# Altium schematic symbol library ESTEEMPCBLIB.SchLib: 593 symbols (part 1 of 5)
Pins are listed as number, name and electrical type; pins without a type are passive.

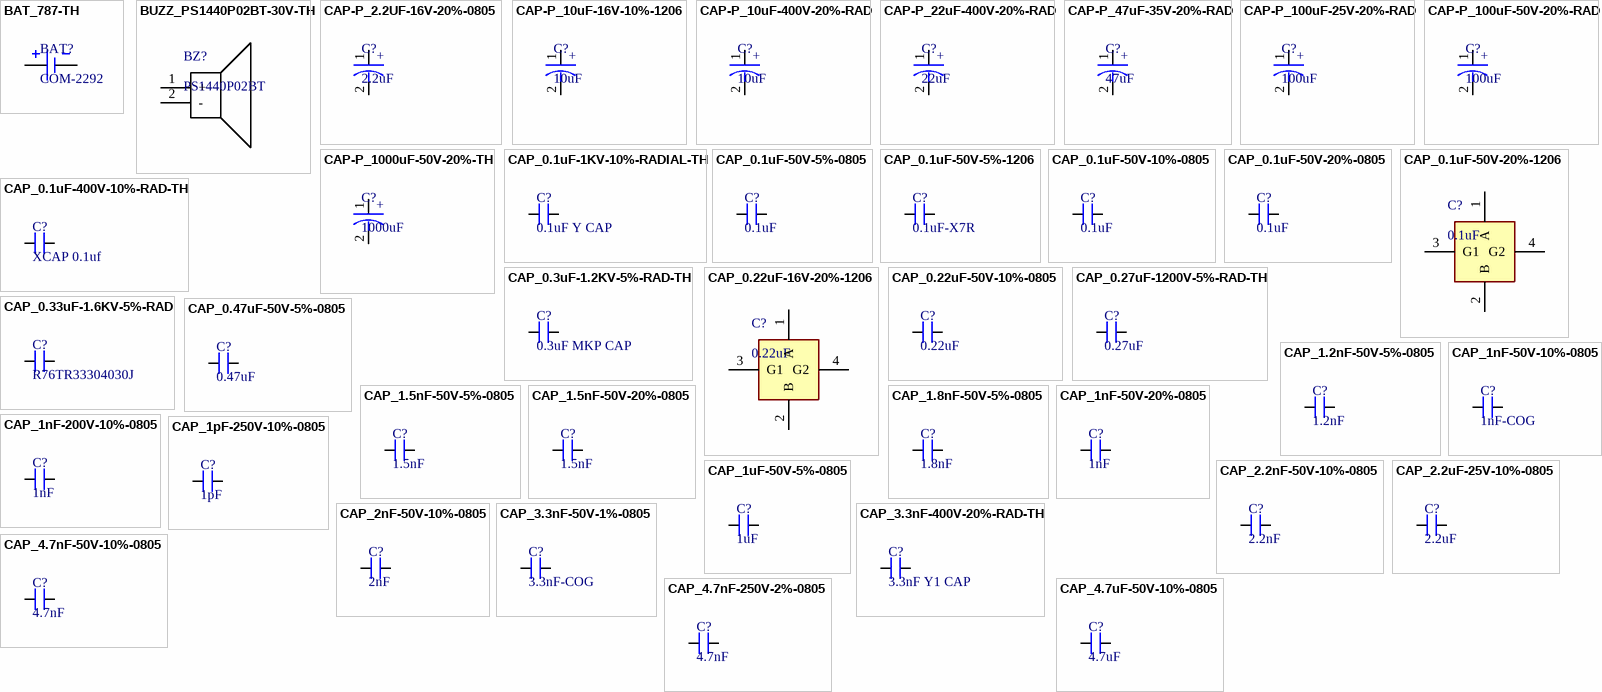
[diagram p0: symbols BAT_787-TH to CAP_4.7uF-50V-10%-0805]

## BAT_787-TH
designator BAT?, comment COM-2292
Basic 20mm coin cell holder. Posts can be inserted into 0.1" perf board! Holds the common CR2032 type batteries.; Manufacturer: NA; Manufacturer Part Number: NA; Case/Package: TH; Supplier-1: Rhydo Labs; Supplier Part Number-1: COM-2292; Alternate Part Number-1: NA
footprint BAT_761_TH (Battery holder)
pins: 1 POS, 2 NEG

## BUZZ_PS1440P02BT-30V-TH
designator BZ?, comment PS1440P02BT
Buzzers Transducer, Externally Driven Piezo 3V  4kHz 75dB @ 3V, 10cm Through Hole PC Pins; Manufacturer: TDK Corporation; Alternate Part Number-1: NA; Manufacturer Part Number: PS1440P02BT; Case/Package: TH; Supplier-1: SP ROAD; Supplier Part Number-1: NA
footprint BUZZ_PS1440P02BT_TH (AUDIO PIEZO TRANSDUCER 30V TH)
pins: 1 +, 2 -

## CAP-P_2.2UF-16V-20%-0805
designator C?, comment 2.2uF
2.2µF Molded Tantalum Capacitors 16V 0805 (2012 Metric) 6.5Ohm; Manufacturer: AVX Corporation; Manufacturer Part Number: TAJR225M016RNJ; Alternate Part Number-1: NA; Case/Package: 0805; Supplier-1: ARROW; Supplier Part Number-1: CL21B225KAFNNNE
footprint CAP-t_0805 (Tantalum Capacitor)
pins: 1, 2
text: +

## CAP-P_10uF-16V-10%-1206
designator C?, comment 10uF
10µF Molded Tantalum Capacitors 16V 1206 (3216 Metric) 3Ohm /; Manufacturer: AVX Corporation; Manufacturer Part Number: TAJA106K016SNJ; Alternate Part Number-1: CA45-A016K106T; Case/Package: 1206; Supplier-1: SIRICOM; Supplier Part Number-1: TAJA106K016SNJ
footprint CAP-T_1206 (Tantalum Capacitor)
pins: 1, 2
text: +

## CAP-P_10uF-400V-20%-RAD
designator C?, comment 10uF
10µF 400V Aluminum Electrolytic Capacitors Radial, Can - SMD 10000 Hrs @ 105°C /; Manufacturer: Nichicon; Manufacturer Part Number: ULV2G100MNL1GS; Alternate Part Number-1: NA; Case/Package: Radial-SMD; Supplier-1: SP ROAD; Supplier Part Number-1: ULV2G100MNL1GS
footprint ACAP_P339_D393_H531_RAD (Aluminium Capacitor)
pins: 1, 2
text: +

## CAP-P_22uF-400V-20%-RAD
designator C?, comment 22uF
22µF 400V Aluminum Electrolytic Capacitors Radial, Can - SMD 5000 Hrs @ 105°C /; Manufacturer: Panasonic Electronic Components; Manufacturer Part Number: EEV-EB2G220M; Alternate Part Number-1: NA; Case/Package: Radial-SMD; Supplier-1: Mouser; Supplier Part Number-1: 667-EEV-EB2G220M
footprint ACAP_P534_D630_H649_RAD (Aluminium Capacitor)
pins: 1, 2
text: +

## CAP-P_47uF-35V-20%-RAD
designator C?, comment 47uF
47µF 35V Aluminum Electrolytic Capacitors Radial, Can - SMD 1000 Hrs @ 85°C /; Manufacturer: Panasonic Electronic Components; Manufacturer Part Number: EEE-1VA470WP; Alternate Part Number-1: NA; Case/Package: Radial-SMD; Supplier-1: SIRICOM; Supplier Part Number-1: RV5-35V470MF55U-R
footprint ACAP_P180_D259_H212_RAD (Aluminium Capacitor)
pins: 1, 2
text: +

## CAP-P_100uF-25V-20%-RAD
designator C?, comment 100uF
100µF 25V Aluminum Electrolytic Capacitors Radial, Can - SMD 1000 Hrs @ 105°C /; Manufacturer: Nichicon; Manufacturer Part Number: UWT1E101MCL1GS; Alternate Part Number-1: NA; Case/Package: Radial-SMD; Supplier-1: SP ROAD; Supplier Part Number-1: UWT1E101MCL1GS
footprint ACAP_P236_D305_H303_RAD (Aluminium Capacitor)
pins: 1, 2
text: +

## CAP-P_100uF-50V-20%-RAD
designator C?, comment 100uF
100µF 50V Aluminum Polymer Capacitor Radial, Can - SMD 28mOhm 4000 Hrs @ 125°C /; Manufacturer: Nichicon; Manufacturer Part Number: GYA1H101MCQ1GS; Alternate Part Number-1: VEU101M1HTR-1010; Case/Package: Radial-SMD; Supplier-1: SP ROAD; Supplier Part Number-1: GYA1H101MCQ1GS
footprint ACAP_P305_D393_H393_RAD (Aluminium Capacitor)
pins: 1, 2
text: +

## CAP-P_1000uF-50V-20%-TH
designator C?, comment 1000uF
1000µF 50V Aluminum Electrolytic Capacitors Radial, Can 2000 Hrs @ 85°C /; Manufacturer: Nichicon; Manufacturer Part Number: UVR1H102MHD1TO; Alternate Part Number-1: NRSS102M50V 12.5X25TBF; Case/Package: Radial-TH; Supplier-1: SP ROAD; Supplier Part Number-1: UVR1H102MHD1TO
footprint ECAP_P196_D511_H984_TH (Electrolytic Capacitor)
pins: 1, 2
text: +

## CAP_0.1uF-1KV-10%-RADIAL-TH
designator C?, comment 0.1uF Y CAP
0.1µF Film Capacitor 500V 1000V (1kV) Paper, Metallized Radial /; Manufacturer: KEMET; Manufacturer Part Number: PME261JC6100KR30; Alternate Part Number-1: NA; Case/Package: TH; Supplier-1: SP ROAD; Supplier Part Number-1: PME261JC6100KR30
footprint CAP_P799_78X118_H590_RAD_TH (Y-CAP Film Capacitor)
pins: 1, 2

## CAP_0.1uF-50V-5%-0805
designator C?, comment 0.1uF
0.1µF ±5% 50V Ceramic Capacitor X7R 0805 (2012 Metric) /; Manufacturer: AVX Corporation; Manufacturer Part Number: 08055C104JAT4A; Alternate Part Number-1: 0805B104M500; Case/Package: 0805; Supplier-1: SIRICOM; Supplier Part Number-1: 0805B104J500CT
footprint CAP_0805 (Ceramic Capacitor)
pins: 1, 2

## CAP_0.1uF-50V-5%-1206
designator C?, comment 0.1uF-X7R
0.1µF ±5% 50V Ceramic Capacitor X7R 1206 (3216 Metric) /; Manufacturer: KEMET; Manufacturer Part Number: C1206C104J5RACTU; Alternate Part Number-1: NA; Case/Package: 1206; Supplier-1: SIRICOM; Supplier Part Number-1: 1206B104J500CT
footprint CAP_1206
pins: 1, 2

## CAP_0.1uF-50V-10%-0805
designator C?, comment 0.1uF
0.1µF ±10% 50V Ceramic Capacitor X7R 0805 (2012 Metric) /; Manufacturer: Samsung; Manufacturer Part Number: CL21B104KBCNNNC; Alternate Part Number-1: NA; Case/Package: 0805; Supplier-1: SIRICOM; Supplier Part Number-1: 0805B104K500CT
footprint CAP_0805 (Ceramic Capacitor)
pins: 1, 2

## CAP_0.1uF-50V-20%-0805
designator C?, comment 0.1uF
0.1µF ±20% 50V Ceramic Capacitor X7R 0805 (2012 Metric) /; Manufacturer: Samsung Electro-Mechanics; Manufacturer Part Number: CL21B104MBCNNNC; Alternate Part Number-1: NA; Case/Package: 0805; Supplier-1: SIRICOM; Supplier Part Number-1: 0805B104K500CT
footprint CAP_0805 (Ceramic Capacitor)
pins: 1, 2

## CAP_0.1uF-50V-20%-1206
designator C?, comment 0.1uF
0.1µF ±20% 50V Ceramic Capacitor X7R 1206 (3216 Metric) /; Manufacturer: Kyocera AVX; Manufacturer Part Number: 500X18W104MV4E; Alternate Part Number-1: NA; Case/Package: 1206; Supplier-1: Mouser; Supplier Part Number-1: 605-500X18W104MV4E
footprint CAP_1206_JOHNSON
pins: 1 A, 2 B, 3 G1, 4 G2

## CAP_0.1uF-400V-10%-RAD-TH
designator C?, comment XCAP 0.1uf
0.1µF Film Capacitor 200V 400V Polyester, Polyethylene Terephthalate (PET), Metallized Radial /; Manufacturer: KEMET; Manufacturer Part Number: R60MI31004030K; Alternate Part Number-1: NA; Case/Package: TH; Supplier-1: SP ROAD; Supplier Part Number-1: R60MI31004030K
footprint CAP_P590_295X708_H437_RAD_TH (Radial X-CAP)
pins: 1, 2

## CAP_0.3uF-1.2KV-5%-RAD-TH
designator C?, comment 0.3uF MKP CAP
0.3µF ±5% 1200V (1.2kV) MKP Capacitor TH; Manufacturer Part Number: NA; Case/Package: TH; Manufacturer: NA; Supplier-1: SP ROAD; Supplier Part Number-1: NA; Alternate Part Number-1: NA
footprint CAP_P964_864X1122_H649_RAD_TH (MKP Capacitor)
pins: 1, 2

## CAP_0.22uF-16V-20%-1206
designator C?, comment 0.22uF
0.22µF ±20% 16V Ceramic Capacitor X7R 1206 (3216 Metric) /; Manufacturer: Johanson; Manufacturer Part Number: 160X18W224MV4E; Alternate Part Number-1: NA; Case/Package: 1206; Supplier-1: SIRICOM; Supplier Part Number-1: C3216X7R1C224KT009N
footprint CAP_1206_JOHNSON (1206 Johnson Cap)
pins: 1 A, 2 B, 3 G1, 4 G2

## CAP_0.22uF-50V-10%-0805
designator C?, comment 0.22uF
0.22µF ±10% 50V Ceramic Capacitor X7R 0805 (2012 Metric) /; Manufacturer: Murata; Manufacturer Part Number: GRM21BR71H224KA01L; Alternate Part Number-1: 0805F224M500NT; Case/Package: 0805; Supplier-1: SIRICOM; Supplier Part Number-1: 0805B224K500CT
footprint CAP_0805 (Ceramic Capacitor)
pins: 1, 2

## CAP_0.27uF-1200V-5%-RAD-TH
designator C?, comment 0.27uF
0.27µF ±5% 1200V (1.2kV) MKP Capacitor TH; Manufacturer Part Number: BM-0.27uFJ400V-275V-MKP-X2; Manufacturer: Yageo; Alternate Part Number-1: NA; Case/Package: TH; Supplier-1: SP ROAD; Supplier Part Number-1: BM-0.27uFJ400V-275V-MKP-X2
footprint CAP_P964_531X1141_H905_RAD_TH (MKP/MKPH CAPACITORS)
pins: 1, 2

## CAP_0.33uF-1.6KV-5%-RAD
designator C?, comment R76TR33304030J
0.33µF Film Capacitor 650V 1600V (1.6kV) Polypropylene (PP), Metallized Radial /; Manufacturer: KEMLET; Alternate Part Number-1: NA; Manufacturer Part Number: R76TR33304030J; Case/Package: TH; Supplier-1: Mouser; Supplier Part Number-1: 80-R76TR33304030J
footprint CAP_P1082_1260X708_H945_RAD (KEMET Film Capacitor)
pins: 1, 2

## CAP_0.47uF-50V-5%-0805
designator C?, comment 0.47uF
0.47µF ±5% 50V Ceramic Capacitor X7R 0805 (2012 Metric) /; Manufacturer: KEMET; Manufacturer Part Number: C0805C474J5RACTU; Alternate Part Number-1: 0805F474M500NT; Case/Package: 0805; Supplier-1: SIRICOM; Supplier Part Number-1: CL21B474KBNNNE
footprint CAP_0805 (Ceramic Capacitor)
pins: 1, 2

## CAP_1.2nF-50V-5%-0805
designator C?, comment 1.2nF
1200pF ±5% 50V Ceramic Capacitor C0G, NP0 0805 (2012 Metric) /; Manufacturer: Yageo; Manufacturer Part Number: CC0805JRNPO9BN122; Alternate Part Number-1: NA; Case/Package: 0805; Supplier-1: SIRICOM; Supplier Part Number-1: 0805N122J500LT
footprint CAP_0805 (Ceramic Capacitor)
pins: 1, 2

## CAP_1.5nF-50V-5%-0805
designator C?, comment 1.5nF
1500pF ±5% 50V Ceramic Capacitor C0G, NP0 0805 (2012 Metric) /; Manufacturer: Murata; Manufacturer Part Number: CC0805JRNPO9BN152; Alternate Part Number-1: NA; Case/Package: 0805; Supplier-1: SIRICOM; Supplier Part Number-1: 0805N152J500CT
footprint CAP_0805
pins: 1, 2

## CAP_1.5nF-50V-20%-0805
designator C?, comment 1.5nF
1500pF ±20% 50V Ceramic Capacitor C0G, NP0 0805 (2012 Metric) /; Manufacturer: KEMET; Manufacturer Part Number: C0805C152M5GEC7800; Alternate Part Number-1: NA; Case/Package: 0805; Supplier-1: SIRICOM; Supplier Part Number-1: C0805C152K5RAC7800
footprint CAP_0805 (Ceramic Capacitor)
pins: 1, 2

## CAP_1.8nF-50V-5%-0805
designator C?, comment 1.8nF
1800pF ±5% 50V Ceramic Capacitor C0G, NP0 0805 (2012 Metric) /; Manufacturer: Murata; Manufacturer Part Number: CC0805JRNPO9BN182; Alternate Part Number-1: NA; Case/Package: 0805; Supplier-1: SIRICOM; Supplier Part Number-1: 0805N182J500CT
footprint CAP_0805 (Ceramic Capacitor)
pins: 1, 2

## CAP_1nF-50V-10%-0805
designator C?, comment 1nF-COG
1000pF ±10% 50V Ceramic Capacitor C0G, NP0 0805 (2012 Metric) /; Manufacturer: Yageo; Manufacturer Part Number: C0805C102K5GEC7210; Alternate Part Number-1: 0805CG102J500NT; Case/Package: 0805; Supplier-1: SIRICOM; Supplier Part Number-1: 0805B102K500CT
footprint CAP_0805 (Ceramic Capacitor)
pins: 1, 2

## CAP_1nF-50V-20%-0805
designator C?, comment 1nF
1000pF ±20% 50V Ceramic Capacitor C0G, NP0 0805 (2012 Metric) /; Manufacturer: KEMET; Manufacturer Part Number: C0805C102M5GEC7210; Alternate Part Number-1: NA; Case/Package: 0805; Supplier-1: SIRICOM; Supplier Part Number-1: 0805B102K500CT
footprint CAP_0805 (Ceramic Capacitor)
pins: 1, 2

## CAP_1nF-200V-10%-0805
designator C?, comment 1nF
1000pF ±10% 200V Ceramic Capacitor C0G, NP0 0805 (2012 Metric) /; Manufacturer: Yageo; Manufacturer Part Number: C0805C102K2GECAUTO; Alternate Part Number-1: NA; Case/Package: 0805; Supplier-1: Mouser; Supplier Part Number-1: 80-C0805C102K2GEAUTO
footprint CAP_0805 (Ceramic Capacitor)
pins: 1, 2

## CAP_1pF-250V-10%-0805
designator C?, comment 1pF
1pF ±0.1pF 250V Ceramic Capacitor C0G, NP0 0805 (2012 Metric) /; Manufacturer: Yageo; Manufacturer Part Number: 600F1R0BT250XT; Alternate Part Number-1: NA; Case/Package: 0805; Supplier-1: Mouser; Supplier Part Number-1: 581-600F1R0BT
footprint CAP_0805 (Ceramic Capacitor)
pins: 1, 2

## CAP_1uF-50V-5%-0805
designator C?, comment 1uF
1µF ±5% 50V Ceramic Capacitor X7R 0805 (2012 Metric) /; Manufacturer: Samsung; Manufacturer Part Number: CC0805JKX7R9BB105; Alternate Part Number-1: 0805F105M500NT; Case/Package: 0805; Supplier-1: SIRICOM; Supplier Part Number-1: CL21B105KBFNNNE
footprint CAP_0805 (Ceramic Capacitor)
pins: 1, 2

## CAP_2.2nF-50V-10%-0805
designator C?, comment 2.2nF
2200pF ±10% 50V Ceramic Capacitor C0G, NP0 0805 (2012 Metric) /; Manufacturer: KEMET; Manufacturer Part Number: C0805C222K5GEC7800; Alternate Part Number-1: NA; Case/Package: 0805; Supplier-1: SIRICOM; Supplier Part Number-1: 0805N222J500LT
footprint CAP_0805 (Ceramic Capacitor)
pins: 1, 2

## CAP_2.2uF-25V-10%-0805
designator C?, comment 2.2uF
2.2µF ±10% 25V Ceramic Capacitor X7R 0805 (2012 Metric) /; Manufacturer: KEMET; Manufacturer Part Number: CL21B225KAFNFNE; Alternate Part Number-1: NA; Case/Package: 0805; Supplier-1: SIRICOM; Supplier Part Number-1: CL21A225KAFNNNE
footprint CAP_0805 (Ceramic Capacitor)
pins: 1, 2

## CAP_2nF-50V-10%-0805
designator C?, comment 2nF
2000pF ±10% 50V Ceramic Capacitor X7R 0805 (2012 Metric) /; Manufacturer: Samsung Electro-Mechanics; Manufacturer Part Number: CL21B202KBANNNC; Alternate Part Number-1: NA; Case/Package: 0805; Supplier-1: Digikey; Supplier Part Number-1: 1276-2471-1-ND - Cut Tape (CT)
footprint CAP_0805 (Ceramic Capacitor)
pins: 1, 2

## CAP_3.3nF-50V-1%-0805
designator C?, comment 3.3nF-COG
3300pF ±1% 50V Ceramic Capacitor C0G, NP0 0805 (2012 Metric) /; Manufacturer: Samsung; Manufacturer Part Number: GRM2165C1H332FA01J; Alternate Part Number-1: NA; Case/Package: 0805; Supplier-1: SIRICOM; Supplier Part Number-1: 0805N332J500LT
footprint CAP_0805
pins: 1, 2

## CAP_3.3nF-400V-20%-RAD-TH
designator C?, comment 3.3nF Y1 CAP
3.3nF ±20% 400V  Y1 Capacitor TH; Manufacturer Part Number: NA; Case/Package: TH; Manufacturer: NA; Supplier-1: SP ROAD; Supplier Part Number-1: NA; Alternate Part Number-1: NA
footprint CAP_P354_59X78_H393_TH (CAPACITOR)
pins: 1, 2

## CAP_4.7nF-50V-10%-0805
designator C?, comment 4.7nF
4700pF ±10% 50V Ceramic Capacitor X7R 0805 (2012 Metric) /; Manufacturer: TDK; Manufacturer Part Number: C0805C472K5RECAUTO; Alternate Part Number-1: NA; Case/Package: 0805; Supplier-1: SIRICOM; Supplier Part Number-1: 0805N472J500LT
footprint CAP_0805 (Ceramic Capacitor)
pins: 1, 2

## CAP_4.7nF-250V-2%-0805
designator C?, comment 4.7nF
4700pF ±2% 250V Ceramic Capacitor C0G, NP0 0805 (2012 Metric) /; Manufacturer: Murata; Manufacturer Part Number: C0805C472GAGACAUTO; Alternate Part Number-1: NA; Case/Package: 0805; Supplier-1: Mouser; Supplier Part Number-1: 80-C0805C472GAGAUTO
footprint CAP_0805 (Ceramic Capacitor)
pins: 1, 2

## CAP_4.7uF-50V-10%-0805
designator C?, comment 4.7uF
4.7µF ±10% 50V Ceramic Capacitor X5R 0805 (2012 Metric) /; Manufacturer: Yageo; Manufacturer Part Number: GRM21BR61H475KE51L; Alternate Part Number-1: NA; Case/Package: 0805; Supplier-1: SIRICOM; Supplier Part Number-1: CL21A475KBQNNNE
footprint CAP_0805 (Ceramic Capacitor)
pins: 1, 2

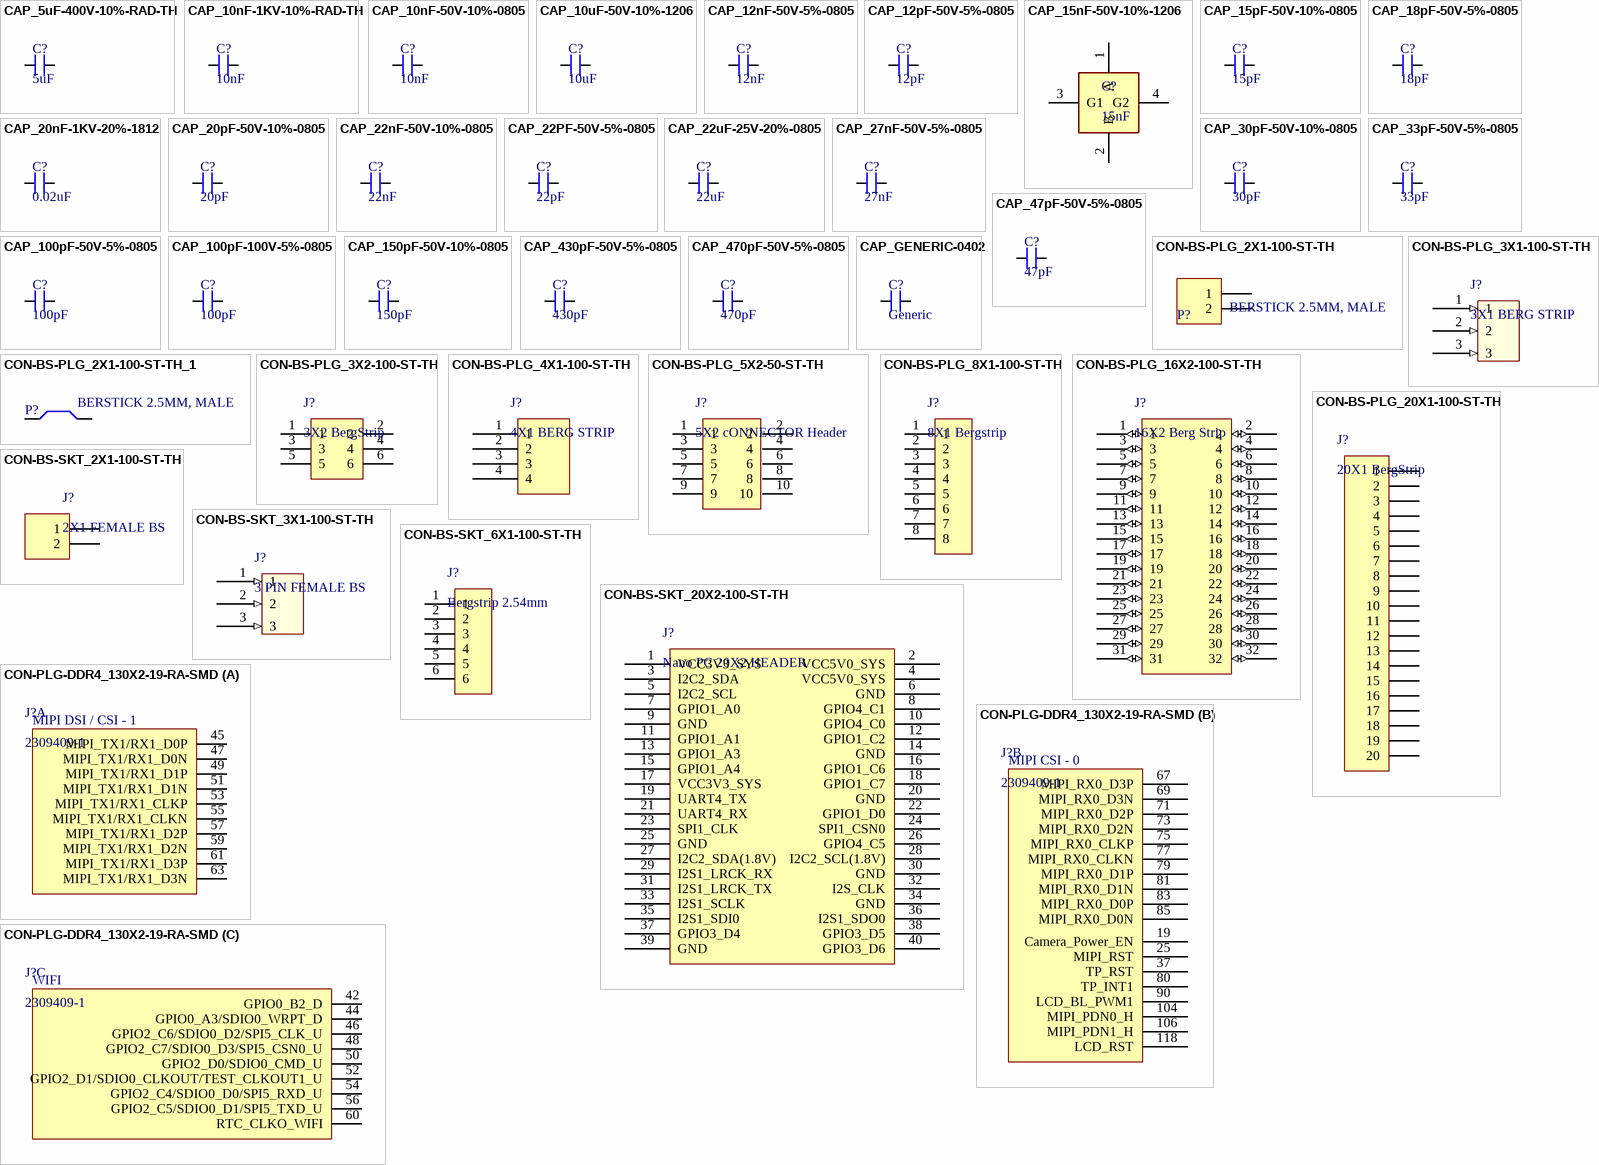
[diagram p1: symbols CAP_5uF-400V-10%-RAD-TH to CON-PLG-DDR4_130X2-19-RA-SMD]

## CAP_5uF-400V-10%-RAD-TH
designator C?, comment 5uF
5µF Film Capacitor 400V Polypropylene (PP), Metallized Radial; Manufacturer Part Number: NA; Case/Package: TH; Manufacturer: NA; Supplier-1: SP ROAD; Supplier Part Number-1: NA; Alternate Part Number-1: NA
footprint CAP_P1082_986X1409_H713_RAD_TH (MKP Capacitors)
pins: 1, 2

## CAP_10nF-1KV-10%-RAD-TH
designator C?, comment 10nF
10000pF ±10% 1000V (1kV) Ceramic Capacitor X7R Radial /; Manufacturer: Yageo; Manufacturer Part Number: RDER73A103K2K1H03B; Alternate Part Number-1: NA; Case/Package: TH; Supplier-1: SP ROAD; Supplier Part Number-1: RDER73A103K2K1H03B
footprint CAP_P196_102X287_H332_RAD_TH (Y1 CAP, TROUGH HOLE)
pins: 1, 2

## CAP_10nF-50V-10%-0805
designator C?, comment 10nF
10000pF ±10% 50V Ceramic Capacitor X7R 0805 (2012 Metric) /; Manufacturer: Samsung; Manufacturer Part Number: C0805C103K5RECAUTO; Alternate Part Number-1: GRM2195C1H103JA01D; Case/Package: 0805; Supplier-1: SIRICOM; Supplier Part Number-1: 0805B103K500CT
footprint CAP_0805 (Ceramic Capacitor)
pins: 1, 2

## CAP_10uF-50V-10%-1206
designator C?, comment 10uF
10µF ±10% 50V Ceramic Capacitor X7R 1206 (3216 Metric) /; Manufacturer: KEMET; Manufacturer Part Number: CL31B106KBHNNNE; Alternate Part Number-1: GRT31CR61H106ME01L; Case/Package: 1206; Supplier-1: SIRICOM; Supplier Part Number-1: CC1206KKX5R9BB106
footprint CAP_1206 (Ceramic Capacitor)
pins: 1, 2

## CAP_12nF-50V-5%-0805
designator C?, comment 12nF
0.012µF ±5% 50V Ceramic Capacitor C0G, NP0 0805 (2012 Metric) /; Manufacturer: Yageo; Manufacturer Part Number: GRM2195C1H123JA01D; Alternate Part Number-1: NA; Case/Package: 0805; Supplier-1: SIRICOM; Supplier Part Number-1: 0805B123K500CT
footprint CAP_0805 (Ceramic Capacitor)
pins: 1, 2

## CAP_12pF-50V-5%-0805
designator C?, comment 12pF
12pF ±5% 50V Ceramic Capacitor C0G, NP0 0805 (2012 Metric) /; Manufacturer: KEMET; Manufacturer Part Number: CC0805JRNPO9BN120; Alternate Part Number-1: NA; Case/Package: 0805; Supplier-1: SIRICOM; Supplier Part Number-1: 0805N120J500CT
footprint CAP_0805 (Ceramic Capacitor)
pins: 1, 2

## CAP_15nF-50V-10%-1206
designator C?, comment 15nF
0.015µF Feed Through Capacitor 50V 10A 1.5mOhm 1206 (3216 Metric), 3 PC Pad /; Manufacturer: Samsung; Manufacturer Part Number: NFM31KC153R1H3L; Alternate Part Number-1: NA; Case/Package: 1206; Supplier-1: ARROW; Supplier Part Number-1: NFM31KC153R1H3L
footprint CAP_1206_JOHNSON
pins: 1 A, 2 B, 3 G1, 4 G2

## CAP_15pF-50V-10%-0805
designator C?, comment 15pF
15pF ±5% 50V Ceramic Capacitor C0G, NP0 0805 (2012 Metric) /; Manufacturer: Kyocera AVX; Manufacturer Part Number: CC0805JRNPO9BN150; Alternate Part Number-1: NA; Case/Package: 0805; Supplier-1: SIRICOM; Supplier Part Number-1: 0805N150J500CT
footprint CAP_0805 (Ceramic Capacitor)
pins: 1, 2

## CAP_18pF-50V-5%-0805
designator C?, comment 18pF
18pF ±5% 50V Ceramic Capacitor C0G, NP0 0805 (2012 Metric) /; Manufacturer: Yageo; Manufacturer Part Number: CL21C180JBANNNC; Alternate Part Number-1: NA; Case/Package: 0805; Supplier-1: NA; Supplier Part Number-1: NA
footprint CAP_0805 (Ceramic Capacitor)
pins: 1, 2

## CAP_20nF-1KV-20%-1812
designator C?, comment 0.02uF
0.02µF ±20% 1000V (1kV) Ceramic Capacitor X7R 1812 (4532 Metric) /; Manufacturer: TDK; Manufacturer Part Number: 1812AC203MAT1A; Alternate Part Number-1: NA; Case/Package: 1812; Supplier-1: Mouser; Supplier Part Number-1: 581-1812AC203M
footprint CAP_1812 (Ceramic Capacitor)
pins: 1, 2

## CAP_20pF-50V-10%-0805
designator C?, comment 20pF
±10% 50V Ceramic Capacitor C0G, NP0 0805 (2012 Metric) /; Manufacturer: AVX Corporation; Manufacturer Part Number: 08055A200KAT2A; Alternate Part Number-1: NA; Case/Package: 0805; Supplier-1: Digikey; Supplier Part Number-1: 478-11887-1-ND - Cut Tape (CT)
footprint CAP_0805 (Ceramic Capacitor)
pins: 1, 2

## CAP_22nF-50V-10%-0805
designator C?, comment 22nF
0.022µF ±10% 50V Ceramic Capacitor X7R 0805 (2012 Metric) /; Manufacturer: Samsung Electro-Mechanics; Manufacturer Part Number: CL21B223KBANNNC; Alternate Part Number-1: NA; Case/Package: 0805; Supplier-1: Digikey; Supplier Part Number-1: 1276-1081-1-ND - Cut Tape (CT)
footprint CAP_0805 (Ceramic Capacitor)
pins: 1, 2

## CAP_22PF-50V-5%-0805
designator C?, comment 22pF
22pF ±5% 50V Ceramic Capacitor C0G, NP0 0805 (2012 Metric) /; Manufacturer: Yageo; Manufacturer Part Number: CC0805JRNPO9BN220; Alternate Part Number-1: 0805CG220J500NT; Case/Package: 0805; Supplier-1: SIRICOM; Supplier Part Number-1: 0805N220J500CT
footprint CAP_0805 (Ceramic Capacitor)
pins: 1, 2

## CAP_22uF-25V-20%-0805
designator C?, comment 22uF
22µF ±20% 25V Ceramic Capacitor X5R 0805 (2012 Metric) /; Manufacturer: Murata; Manufacturer Part Number: GRM21BR61E226ME44L; Alternate Part Number-1: NA; Case/Package: 0805; Supplier-1: LCSC; Supplier Part Number-1: C86816
footprint CAP_0805 (Ceramic Capacitor)
pins: 1, 2

## CAP_27nF-50V-5%-0805
designator C?, comment 27nF
0.027µF ±5% 50V Ceramic Capacitor X7R 0805 (2012 Metric) /; Manufacturer: Murata; Manufacturer Part Number: CC0805JRX7R9BB273; Alternate Part Number-1: NA; Case/Package: 0805; Supplier-1: SIRICOM; Supplier Part Number-1: 0805B273K500CT
footprint CAP_0805 (Ceramic Capacitor)
pins: 1, 2

## CAP_30pF-50V-10%-0805
designator C?, comment 30pF
±10% 50V Ceramic Capacitor C0G, NP0 0805 (2012 Metric) /; Manufacturer Part Number: C0805C300K5GAC7800; Manufacturer: KEMET; Alternate Part Number: NA; Case/Package: 0805; Supplier-1: Digikey; Supplier Part Number-1: 399-17443-1-ND - Cut Tape (CT)
footprint CAP_0805 (Ceramic Capacitor)
pins: 1, 2

## CAP_33pF-50V-5%-0805
designator C?, comment 33pF
33pF ±5% 50V Ceramic Capacitor C0G, NP0 0805 (2012 Metric) /; Manufacturer: Samsung; Manufacturer Part Number: CL21C330JBANNNC; Alternate Part Number-1: NA; Case/Package: 0805; Supplier-1: SIRICOM; Supplier Part Number-1: 0805N330J500CT
footprint CAP_0805 (Ceramic Capacitor)
pins: 1, 2

## CAP_47pF-50V-5%-0805
designator C?, comment 47pF
47pF ±5% 50V Ceramic Capacitor C0G, NP0 0805 (2012 Metric) /; Manufacturer: KEMET; Manufacturer Part Number: C0805C470J5GACTU; Alternate Part Number-1: NA; Case/Package: 0805; Supplier-1: SIRICOM; Supplier Part Number-1: 0805N450J500CT
footprint CAP_0805 (Ceramic Capacitor)
pins: 1, 2

## CAP_100pF-50V-5%-0805
designator C?, comment 100pF
100pF ±5% 50V Ceramic Capacitor C0G, NP0 0805 (2012 Metric) /; Manufacturer: KEMET; Manufacturer Part Number: CC0805JRNPO9BN101; Alternate Part Number-1: NA; Case/Package: 0805; Supplier-1: SIRICOM; Supplier Part Number-1: 0805N101J500LT
footprint CAP_0805 (Ceramic Capacitor)
pins: 1, 2

## CAP_100pF-100V-5%-0805
designator C?, comment 100pF
100pF ±5% 100V Ceramic Capacitor C0G, NP0 0805 (2012 Metric) /; Manufacturer: Murata; Manufacturer Part Number: CL21C101JC61PNC; Alternate Part Number-1: NA; Case/Package: 0805; Supplier-1: SIRICOM; Supplier Part Number-1: 0805N101J101CT
footprint CAP_0805 (Ceramic Capacitor)
pins: 1, 2

## CAP_150pF-50V-10%-0805
designator C?, comment 150pF
150pF ±10% 50V Ceramic Capacitor C0G, NP0 0805 (2012 Metric) /; Manufacturer: AVX Corporation; Manufacturer Part Number: 08055A151KAT2A; Alternate Part Number-1: NA; Case/Package: 0805; Supplier-1: Digikey; Supplier Part Number-1: 478-10501-1-ND - Cut Tape (CT)
footprint CAP_0805 (Ceramic Capacitor)
pins: 1, 2

## CAP_430pF-50V-5%-0805
designator C?, comment 430pF
430pF ±5% 50V Ceramic Capacitor C0G, NP0 0805 (2012 Metric) /; Manufacturer: KEMET; Manufacturer Part Number: 08055A431JAT4A; Alternate Part Number-1: NA; Case/Package: 0805; Supplier-1: Mouser; Supplier Part Number-1: 581-08055A431JAT4A
footprint CAP_0805 (Ceramic Capacitor)
pins: 1, 2

## CAP_470pF-50V-5%-0805
designator C?, comment 470pF
470pF ±5% 50V Ceramic Capacitor C0G, NP0 0805 (2012 Metric) /; Manufacturer: KEMLET; Manufacturer Part Number: C0805C471J5GACTU; Alternate Part Number-1: NA; Case/Package: 0805; Supplier-1: SIRICOM; Supplier Part Number-1: 0805N471J500CT
footprint CAP_0805 (Ceramic Capacitor)
pins: 1, 2

## CAP_GENERIC-0402
designator C?, comment Generic
Generic capacitor Symbol; Manufacturer: NA; Manufacturer Part Number: NA; Case/Package: 0603; Supplier-1: NA; Supplier Part Number-1: NA; Alternate Part Number-1: NA
footprint RES_0603 (CASE: 0603)
pins: 1, 2

## CON-BS-PLG_2X1-100-ST-TH
designator P?, comment BERSTICK 2.5MM, MALE
2 Pins, 1 Row 2.54mm Pitch, Straight bergstrip, Male; Manufacturer Part Number: NA; Manufacturer: Samtec; Case/Package: TH-CON; Supplier-1: SP ROAD; Supplier Part Number-1: NA; Alternate Part Number-1: NA
footprint CON2_100_43D62_TH_ST (Berg Strip)
pins: 1, 2

## CON-BS-PLG_2X1-100-ST-TH_1
designator P?, comment BERSTICK 2.5MM, MALE
2 Pins, 1 Row 2.54mm Pitch, Straight bergstrip, Male; Manufacturer Part Number: NA; Manufacturer: NA; Case/Package: TH-CON; Supplier-1: SP ROAD; Supplier Part Number-1: NA; Alternate Part Number-1: NA
footprint CON2_100_43D62_TH_ST_FEMALE (Female Berg Strip)
pins: 1, 2

## CON-BS-PLG_3X1-100-ST-TH
designator J?, comment 3X1 BERG STRIP
3 Pins, 1 Row 2.54mm Pitch, Straight bergstrip, Male; Manufacturer: NA; Manufacturer Part Number: RKI-1140; Case/Package: TH-CON; Supplier-1: SP ROAD; Supplier Part Number-1: NA; Alternate Part Number-1: NA
footprint CON3_100_40D72_TH_ST-MALE (Berg Strip)
pins: 1 (in), 2 (in), 3 (in)

## CON-BS-PLG_3X2-100-ST-TH
designator J?, comment 3X2 BergStrip
6 Pins, 2 Row 2.54mm Pitch, Straight bergstrip, Male; Manufacturer: NA; Manufacturer Part Number: NA; Case/Package: TH; Supplier-1: SP ROAD; Supplier Part Number-1: NA; Alternate Part Number-1: NA
footprint CON6_100_59D78_TH_ST_Duplicate (Berg strip)
pins: 1, 2, 3, 4, 5, 6

## CON-BS-PLG_4X1-100-ST-TH
designator J?, comment 4X1 BERG STRIP
4 Pins, 1 Row 2.54mm Pitch, Straight bergstrip, Male; Manufacturer: NA; Manufacturer Part Number: NA; Case/Package: TH-CON; Supplier-1: SP ROAD; Supplier Part Number-1: NA; Alternate Part Number-1: NA
footprint CON4_100_40D72_TH_ST_MALE (Berg Strip)
pins: 1, 2, 3, 4

## CON-BS-PLG_5X2-50-ST-TH
designator J?, comment 5X2 cONNECTOR Header
10 Pins, 2 Row 1.25mm Pitch, Straight bergstrip, Male; Manufacturer: JST; Manufacturer Part Number: 20021111-00010T4LF; Alternate Part Number-1: NA; Case/Package: TH-CON; Supplier-1: SP ROAD; Supplier Part Number-1: NA
footprint CON10_100_25D44_TH_ST (Berg Strip)
pins: 1, 2, 3, 4, 5, 6, 7, 8, 9, 10

## CON-BS-PLG_8X1-100-ST-TH
designator J?, comment 8X1 Bergstrip
8 Pins, 1 Row 2.54mm Pitch, Straight bergstrip, Male; Manufacturer Part Number: NA; Case/Package: TH; Manufacturer: NA; Supplier-1: NA; Supplier Part Number-1: NA; Alternate Part Number-1: NA
footprint CON8_100_59D78_TH_ST-FEMALE (Bergstrip)
pins: 1, 2, 3, 4, 5, 6, 7, 8

## CON-BS-PLG_16X2-100-ST-TH
designator J?, comment 16X2 Berg Strip
32 Pins, 2 Row 2.54mm Pitch, Straight bergstrip, Male; Manufacturer Part Number: MTSW-136-09-G-D-320-RA; Manufacturer: Amphenol FCI; Alternate Part Number-1: NA; Case/Package: TH-CON; Supplier-1: SP ROAD; Supplier Part Number-1: NA
footprint CON32_100_33D78_TH_ST (Berg Strip)
pins: 1 (io), 2 (io), 3 (io), 4 (io), 5 (io), 6 (io), 7 (io), 8 (io), 9 (io), 10 (io), 11 (io), 12 (io), 13 (io), 14 (io), 15 (io), 16 (io), 17 (io), 18 (io), 19 (io), 20 (io), 21 (io), 22 (io), 23 (io), 24 (io), 25 (io), 26 (io), 27 (io), 28 (io), 29 (io), 30 (io), 31 (io), 32 (io)

## CON-BS-PLG_20X1-100-ST-TH
designator J?, comment 20X1 BergStrip
20 Pins, 1 Row 2.54mm Pitch, Straight bergstrip, Female; Manufacturer Part Number: NA; Case/Package: TH; Manufacturer: NA; Supplier-1: SP ROAD; Supplier Part Number-1: NA; Alternate Part Number-1: NA
footprint CON20_100_40D72_TH_ST (Berg strip)
pins: 1, 2, 3, 4, 5, 6, 7, 8, 9, 10, 11, 12, 13, 14, 15, 16, 17, 18, 19, 20

## CON-BS-SKT_2X1-100-ST-TH
designator J?, comment 2X1 FEMALE BS
2 Pins, 1 Row 2.54mm Pitch, Straight bergstrip, Female; Manufacturer Part Number: 67996-102HLF; Manufacturer: Adafruit; Alternate Part Number-1: NA; Case/Package: TH-CON; Supplier-1: SP ROAD; Supplier Part Number-1: NA
footprint CON2_100_43D62_TH_ST_FEMALE (Female Berg Strip)
pins: 1, 2

## CON-BS-SKT_3X1-100-ST-TH
designator J?, comment 3 PIN FEMALE BS
3 Pins, 1 Row 2.54mm Pitch, Straight bergstrip, Female; Manufacturer Part Number: 68000-103HLF; Manufacturer: FCI / Amphenol; Alternate Part Number-1: NA; Case/Package: TH-CON; Supplier-1: SP ROAD; Supplier Part Number-1: NA
footprint CON3_100_40D72_TH_ST-FEMALE (Berg Strip)
pins: 1 (in), 2 (in), 3 (in)

## CON-BS-SKT_6X1-100-ST-TH
designator J?, comment Bergstrip 2.54mm
6 Pins, 1 Row 2.54mm Pitch, Straight bergstrip, Female; Manufacturer: Molex; Alternate Part Number-1: NA; Manufacturer Part Number: 22-10-2061; Case/Package: TH-CON; Supplier-1: SP ROAD; Supplier Part Number-1: NA
footprint CON6_100_59D78_TH_ST (Bergstrip)
footprint MOD_HC-05_TH_ST (Berg Strip)
pins: 1, 2, 3, 4, 5, 6

## CON-BS-SKT_20X2-100-ST-TH
designator J?, comment Nano PC 20X2 HEADER
40 Pins, 2 Row 2.54mm Pitch, Straight bergstrip, Female (Stackup); Manufacturer Part Number: ADA2223; Manufacturer: FCI / Amphenol; Alternate Part Number-1: NA; Case/Package: TH-CON; Supplier-1: TANOTIS; Supplier Part Number-1: Adafruit 2223
footprint CON40_100_ADA2223_ST_TH
pins: 1 VCC3V3_SYS, 2 VCC5V0_SYS, 3 I2C2_SDA, 4 VCC5V0_SYS, 5 I2C2_SCL, 6 GND, 7 GPIO1_A0, 8 GPIO4_C1, 9 GND, 10 GPIO4_C0, 11 GPIO1_A1, 12 GPIO1_C2, 13 GPIO1_A3, 14 GND, 15 GPIO1_A4, 16 GPIO1_C6, 17 VCC3V3_SYS, 18 GPIO1_C7, 19 UART4_TX, 20 GND, 21 UART4_RX, 22 GPIO1_D0, 23 SPI1_CLK, 24 SPI1_CSN0, 25 GND, 26 GPIO4_C5, 27 I2C2_SDA(1.8V), 28 I2C2_SCL(1.8V), 29 I2S1_LRCK_RX, 30 GND, 31 I2S1_LRCK_TX, 32 I2S_CLK, 33 I2S1_SCLK, 34 GND, 35 I2S1_SDI0, 36 I2S1_SDO0, 37 GPIO3_D4, 38 GPIO3_D5, 39 GND, 40 GPIO3_D6

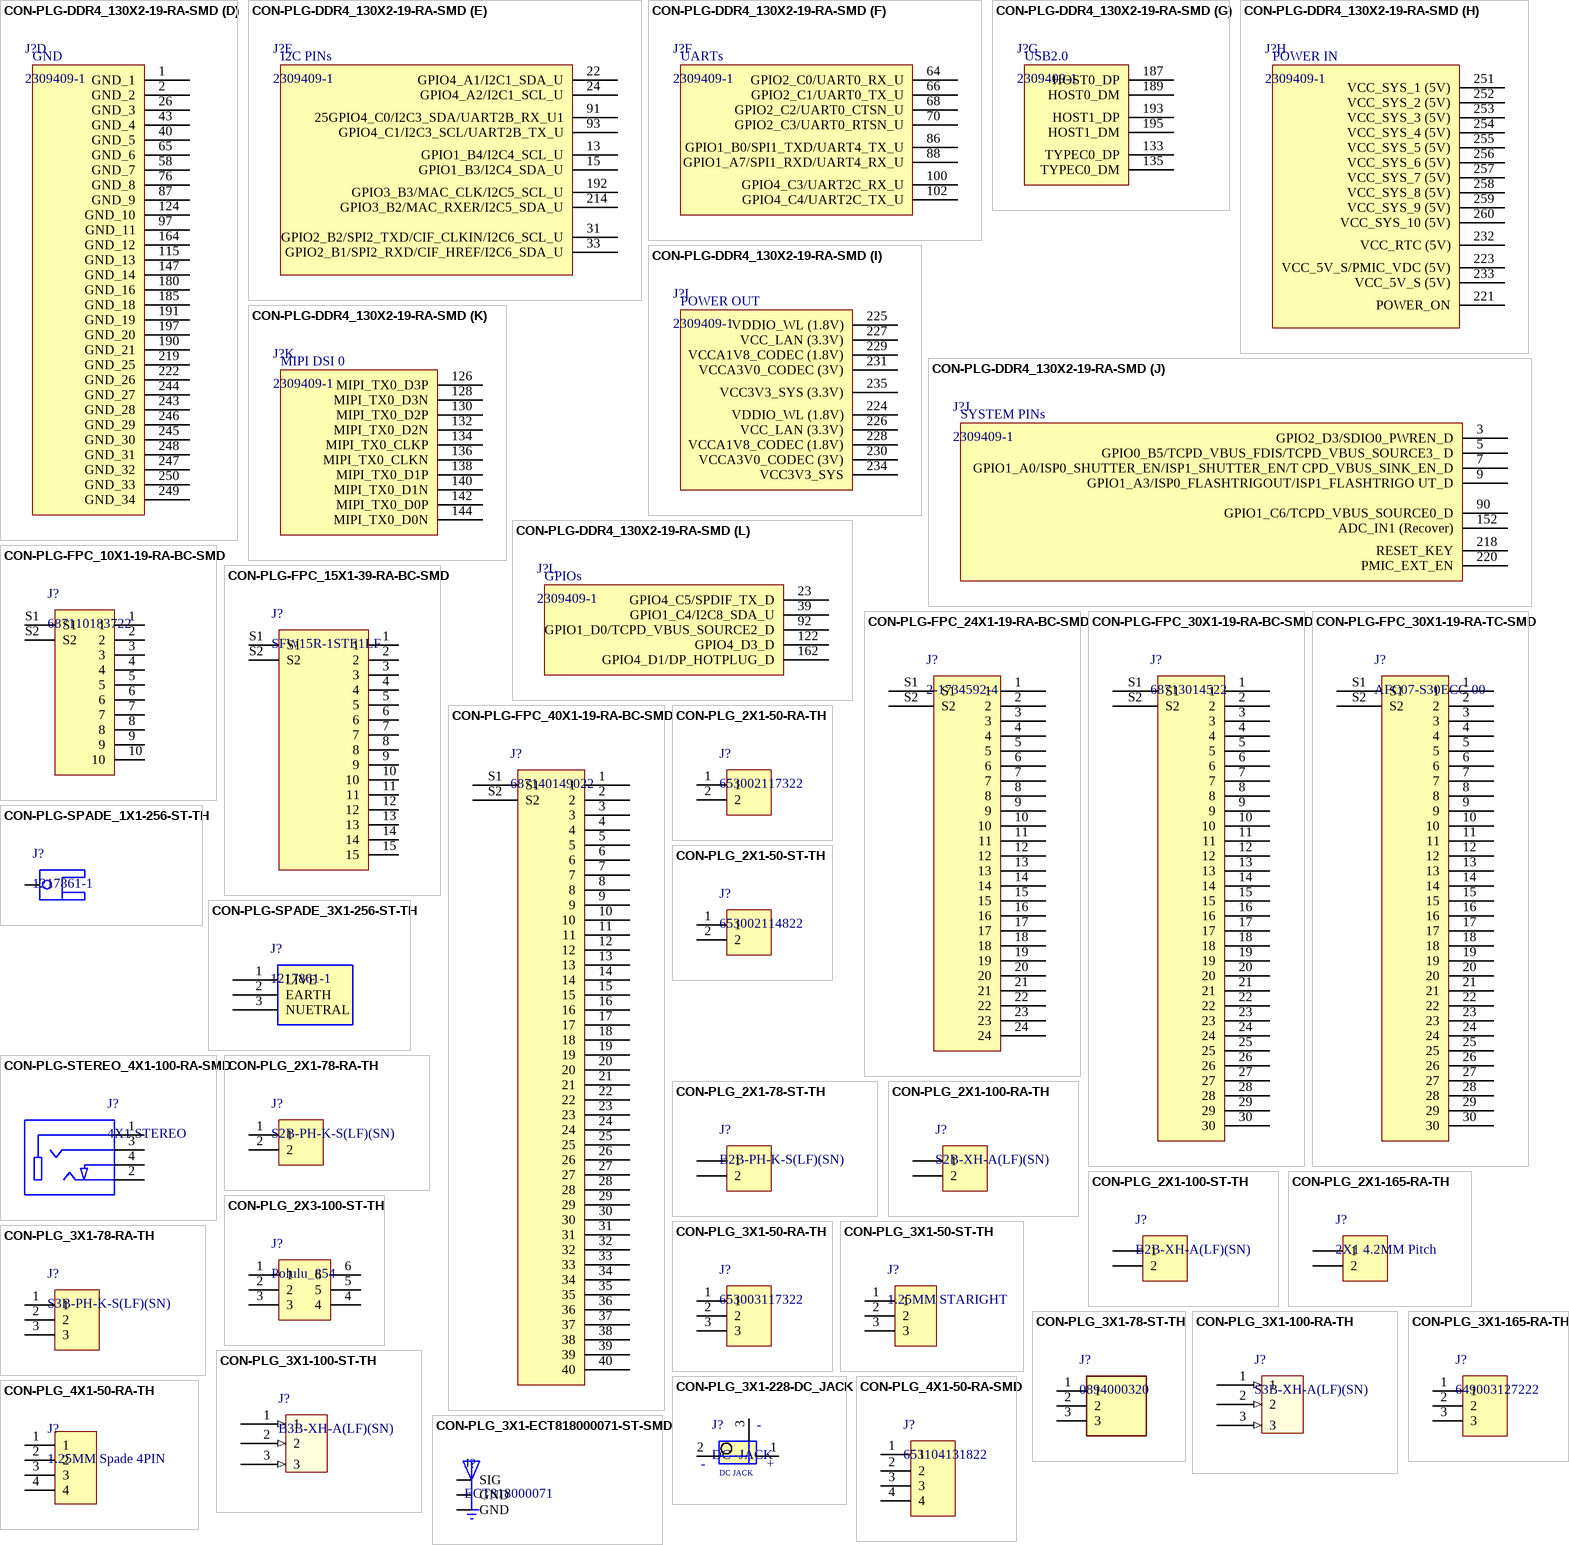
[diagram p2: symbols CON-PLG-DDR4_130X2-19-RA-SMD to CON-PLG_4X1-50-RA-TH]

## CON-PLG-DDR4_130X2-19-RA-SMD
designator J?, comment 2309409-1
DIMM Connectors DDR4 SODIMM 260P 5.2H STD; Manufacturer: TE Connectivity / Alcoswitch; Alternate Part Number-1: NA; Manufacturer Part Number: 2309409-1; Case/Package: SMD; Supplier-1: Mouser; Supplier Part Number-1: 571-2309409-1
footprint CON260_RK3399-JD4 (DDR4-260Pin)
part A pins: 45 MIPI_TX1/RX1_D0P, 47 MIPI_TX1/RX1_D0N, 49 MIPI_TX1/RX1_D1P, 51 MIPI_TX1/RX1_D1N, 53 MIPI_TX1/RX1_CLKP, 55 MIPI_TX1/RX1_CLKN, 57 MIPI_TX1/RX1_D2P, 59 MIPI_TX1/RX1_D2N, 61 MIPI_TX1/RX1_D3P, 63 MIPI_TX1/RX1_D3N
part B pins: 19 Camera_Power_EN "GPIO1_A1/ISP0_SHUTTER_TRIG/ISP1_SHUTTER_TR IG/TCPD_CC0_VCONN_EN_D", 25 MIPI_RST "GPIO0_B0/SDMMC0_WRPT/TEST_CLKOUT2_U", 37 TP_RST "GPIO1_C7/TCPD_VBUS_SOURCE1_D", 67 MIPI_RX0_D3P, 69 MIPI_RX0_D3N, 71 MIPI_RX0_D2P, 73 MIPI_RX0_D2N, 75 MIPI_RX0_CLKP, 77 MIPI_RX0_CLKN, 79 MIPI_RX0_D1P, 80 TP_INT1, 81 MIPI_RX0_D1N, 83 MIPI_RX0_D0P, 85 MIPI_RX0_D0N, 90 LCD_BL_PWM1, 104 MIPI_PDN0_H "GPIO2_A0/VOP_D0/CIF_D0/I2C2_SDA_U", 106 MIPI_PDN1_H "GPIO2_A1/VOP_D1/CIF_D1/I2C2_SCL_U", 118 LCD_RST "GPIO4_D5_D"
part C pins: 42 GPIO0_B2_D, 44 GPIO0_A3/SDIO0_WRPT_D, 46 GPIO2_C6/SDIO0_D2/SPI5_CLK_U, 48 GPIO2_C7/SDIO0_D3/SPI5_CSN0_U, 50 GPIO2_D0/SDIO0_CMD_U, 52 GPIO2_D1/SDIO0_CLKOUT/TEST_CLKOUT1_U, 54 GPIO2_C4/SDIO0_D0/SPI5_RXD_U, 56 GPIO2_C5/SDIO0_D1/SPI5_TXD_U, 60 RTC_CLKO_WIFI
part D pins: 1 GND_1, 2 GND_2, 26 GND_3, 40 GND_5, 43 GND_4, 58 GND_7, 65 GND_6, 76 GND_8, 87 GND_9, 97 GND_11, 115 GND_13, 124 GND_10, 147 GND_14, 164 GND_12, 180 GND_16, 185 GND_18, 190 GND_21, 191 GND_19, 197 GND_20, 219 GND_25, 222 GND_26, 243 GND_28, 244 GND_27, 245 GND_30, 246 GND_29, 247 GND_32, 248 GND_31, 249 GND_34, 250 GND_33
part E pins: 13 GPIO1_B4/I2C4_SCL_U, 15 GPIO1_B3/I2C4_SDA_U, 22 GPIO4_A1/I2C1_SDA_U, 24 GPIO4_A2/I2C1_SCL_U, 31 GPIO2_B2/SPI2_TXD/CIF_CLKIN/I2C6_SCL_U, 33 GPIO2_B1/SPI2_RXD/CIF_HREF/I2C6_SDA_U, 91 25GPIO4_C0/I2C3_SDA/UART2B_RX_U1, 93 GPIO4_C1/I2C3_SCL/UART2B_TX_U, 192 GPIO3_B3/MAC_CLK/I2C5_SCL_U, 214 GPIO3_B2/MAC_RXER/I2C5_SDA_U
part F pins: 64 GPIO2_C0/UART0_RX_U, 66 GPIO2_C1/UART0_TX_U, 68 GPIO2_C2/UART0_CTSN_U, 70 GPIO2_C3/UART0_RTSN_U, 86 GPIO1_B0/SPI1_TXD/UART4_TX_U, 88 GPIO1_A7/SPI1_RXD/UART4_RX_U, 100 GPIO4_C3/UART2C_RX_U, 102 GPIO4_C4/UART2C_TX_U
part G pins: 133 TYPEC0_DP, 135 TYPEC0_DM, 187 HOST0_DP, 189 HOST0_DM, 193 HOST1_DP, 195 HOST1_DM
part H pins: 221 POWER_ON ""Power on Signal Input, External connection Power key", 223 VCC_5V_S/PMIC_VDC (5V), 232 VCC_RTC (5V), 233 VCC_5V_S (5V), 251 VCC_SYS_1 (5V), 252 VCC_SYS_2 (5V), 253 VCC_SYS_3 (5V), 254 VCC_SYS_4 (5V), 255 VCC_SYS_5 (5V), 256 VCC_SYS_6 (5V), 257 VCC_SYS_7 (5V), 258 VCC_SYS_8 (5V), 259 VCC_SYS_9 (5V), 260 VCC_SYS_10 (5V)
part I pins: 224 VDDIO_WL (1.8V), 225 VDDIO_WL (1.8V), 226 VCC_LAN (3.3V), 227 VCC_LAN (3.3V), 228 VCCA1V8_CODEC (1.8V), 229 VCCA1V8_CODEC (1.8V), 230 VCCA3V0_CODEC (3V), 231 VCCA3V0_CODEC (3V), 234 VCC3V3_SYS, 235 VCC3V3_SYS (3.3V)
part J pins: 3 GPIO2_D3/SDIO0_PWREN_D, 5 GPIO0_B5/TCPD_VBUS_FDIS/TCPD_VBUS_SOURCE3_ D, 7 GPIO1_A0/ISP0_SHUTTER_EN/ISP1_SHUTTER_EN/T CPD_VBUS_SINK_EN_D, 9 GPIO1_A3/ISP0_FLASHTRIGOUT/ISP1_FLASHTRIGO UT_D, 90 GPIO1_C6/TCPD_VBUS_SOURCE0_D, 152 ADC_IN1 (Recover), 218 RESET_KEY, 220 PMIC_EXT_EN
part K pins: 126 MIPI_TX0_D3P, 128 MIPI_TX0_D3N, 130 MIPI_TX0_D2P, 132 MIPI_TX0_D2N, 134 MIPI_TX0_CLKP, 136 MIPI_TX0_CLKN, 138 MIPI_TX0_D1P, 140 MIPI_TX0_D1N, 142 MIPI_TX0_D0P, 144 MIPI_TX0_D0N
part L pins: 23 GPIO4_C5/SPDIF_TX_D, 39 GPIO1_C4/I2C8_SDA_U, 92 GPIO1_D0/TCPD_VBUS_SOURCE2_D, 122 GPIO4_D3_D, 162 GPIO4_D1/DP_HOTPLUG_D
part A text: MIPI DSI / CSI - 1
part B text: MIPI CSI - 0
part C text: WIFI
part D text: GND
part E text: I2C PINs
part F text: UARTs
part G text: USB2.0
part H text: POWER IN
part I text: POWER OUT
part J text: SYSTEM PINs
part K text: MIPI DSI 0
part L text: GPIOs

## CON-PLG-FPC_10X1-19-RA-BC-SMD
designator J?, comment 687110183722
FFC & FPC Connectors WR-FPC SMT Horiztl .50mm Bott Cont 10P; Manufacturer: WE; Mating Part Number: 687610200002; Alternate Part Number-1: NA; Manufacturer Part Number: 687110183722; Case/Package: SMD; Supplier-1: Mouser; Supplier Part Number-1: 710-687110183722
footprint CON10_19_687110183722 _TH_RA (10 PIN FPC Connector)
pins: 1, 2, 3, 4, 5, 6, 7, 8, 9, 10, S1, S2

## CON-PLG-FPC_15X1-39-RA-BC-SMD
designator J?, comment SFW15R-1STE1LF
15 Position FFC, FPC Connector Contacts, Bottom 0.039" (1.00mm) Surface Mount, Right Angle; Manufacturer: TE Connectivity; Mating Part Number: 100R15-457B; Alternate Part Number-1: NA; Manufacturer Part Number: SFW15R-1STE1LF; Case/Package: SMD; Supplier-1: Mouser; Supplier Part Number-1: SFW15R-1STE1LF
footprint CON15_39_SFW15R-1STE1LF (15 PIN 1mm FPC Connector)
pins: 1, 2, 3, 4, 5, 6, 7, 8, 9, 10, 11, 12, 13, 14, 15, S1, S2

## CON-PLG-FPC_24X1-19-RA-BC-SMD
designator J?, comment 2-1734592-4
FFC & FPC Connectors FPC CONN 0.5MM PITCH B/C 24P; Manufacturer: TE Connectivity; Mating Part Number: 0151660259; Alternate Part Number-1: NA; Manufacturer Part Number: 2-1734592-4; Case/Package: SMD; Supplier-1: Mouser; Supplier Part Number-1: 571-2-1734592-4
footprint CON24_19_2-1734592-4_SMD_RA (24 PIN FPC Connector)
pins: 1, 2, 3, 4, 5, 6, 7, 8, 9, 10, 11, 12, 13, 14, 15, 16, 17, 18, 19, 20, 21, 22, 23, 24, S1, S2

## CON-PLG-FPC_30X1-19-RA-BC-SMD
designator J?, comment 68713014522
FFC & FPC Connectors 0.5 FPC EASYON BTM CONT RA 30CKT ZIF; Manufacturer: WE; Mating Part Number: 687730200002; Alternate Part Number-1: NA; Manufacturer Part Number: 68713014522; Case/Package: SMD; Supplier-1: Mouser; Supplier Part Number-1: 68713014522
footprint CON30_19_68713014522 _SMD_RA (30 PIN FPC Connector)
pins: 1, 2, 3, 4, 5, 6, 7, 8, 9, 10, 11, 12, 13, 14, 15, 16, 17, 18, 19, 20, 21, 22, 23, 24, 25, 26, 27, 28, 29, 30, S1, S2

## CON-PLG-FPC_30X1-19-RA-TC-SMD
designator J?, comment AFC07-S30ECC-00
FFC & FPC Connectors 0.5 FPC ZIF SMT R/AU prCont30CktEmbsTpPkg; Manufacturer: JUSHUO; Mating Part Number: 0151660317; Alternate Part Number-1: NA; Manufacturer Part Number: AFC07-S30ECC-00; Case/Package: SMD; Supplier-1: LCSC; Supplier Part Number-1: C11095
footprint CON30_19_ AFC07-S30ECC-00_SMD_RA (FPC Connector)
pins: 1, 2, 3, 4, 5, 6, 7, 8, 9, 10, 11, 12, 13, 14, 15, 16, 17, 18, 19, 20, 21, 22, 23, 24, 25, 26, 27, 28, 29, 30, S1, S2

## CON-PLG-FPC_40X1-19-RA-BC-SMD
designator J?, comment 687140149022
FFC & FPC Connectors 0.5 FPC EASYON BTM CONT RA 40CKT ZIF; Manufacturer: Molex; Mating Part Number: 687640100002; Alternate Part Number-1: NA; Manufacturer Part Number: 687140149022; Case/Package: SMD; Supplier-1: Mouser; Supplier Part Number-1: 687140149022
footprint CON40_19.6_687140149022_SMD_RA (FPC Connector)
pins: 1, 2, 3, 4, 5, 6, 7, 8, 9, 10, 11, 12, 13, 14, 15, 16, 17, 18, 19, 20, 21, 22, 23, 24, 25, 26, 27, 28, 29, 30, 31, 32, 33, 34, 35, 36, 37, 38, 39, 40, S1, S2

## CON-PLG-SPADE_1X1-256-ST-TH
designator J?, comment 1217861-1
1 Pins, 1 Row 256mil Pitch, Straight, Male; Manufacturer: TE Connectivity; Mating Part Number: 2-520183-2; Alternate Part Number-1: NA; Manufacturer Part Number: 1217861-1; Case/Package: TH-CON; Supplier-1: ARROW; Supplier Part Number-1: 1217861-1
footprint CON1_P192_70D137_TH_ST (SOLDER TABS)
pins: 1

## CON-PLG-SPADE_3X1-256-ST-TH
designator J?, comment 1217861-1
3 Pins, 1 Row 256mil Pitch, Straight, Male; Manufacturer: TE Connectivity; Mating Part Number: 2-520183-2; Alternate Part Number-1: NA; Manufacturer Part Number: 1217861-1; Case/Package: TH-CON; Supplier-1: ARROW; Supplier Part Number-1: 1217861-1
footprint CON3_P196_591D78_TH_ST_INDC (SOLDER TABS)
pins: 1 LIVE, 2 EARTH, 3 NUETRAL

## CON-PLG-STEREO_4X1-100-RA-SMD
designator J?, comment 4X1 STEREO
2.50mm (0.094", 3/32", Sub Mini, Miniature) - Headphone Phone Jack Stereo (4 Conductor, TRRS) Connector Solder; Manufacturer: CUI Devices; Manufacturer Part Number: SJ-2504A-SMT-TR; Alternate Part Number-1: NA; Case/Package: SMD; Supplier Part Number-1: CP-SJ-2504A-SMT-CT-ND - Cut Tape (CT); Supplier-1: Digikey
footprint CON_SJ-2504A-SMT-TR_SMD
pins: 1, 2, 3, 4

## CON-PLG_2X1-50-RA-TH
designator J?, comment 653002117322
1 Pins, 1 Row 256mil Pitch, Straight, Male; Manufacturer: JST; Mating Part Number: 653002113322; Crimp Part Number: 653153128130; Alternate Part Number-1: NA; Manufacturer Part Number: 653002117322; Case/Package: TH-CON; Supplier-1: WURTH; Supplier Part Number-1: 653002117322
footprint CON2_50_653002117322_TH_RA (Wurth Connector)
pins: 1, 2

## CON-PLG_2X1-50-ST-TH
designator J?, comment 653002114822
2 Pins, 1 Row 1.25mm Pitch, Straight Connector, male; Manufacturer: JST; Mating Part Number: 653002113322; Crimp Part Number: 653153128130; Alternate Part Number-1: NA; Manufacturer Part Number: 653002114822; Case/Package: TH-CON; Supplier-1: WURTH; Supplier Part Number-1: 653002114822
footprint CON2_50_653002114822_TH_ST (WR-WTB 1.25 mm Male Vertical Shrouded Header)
pins: 1, 2

## CON-PLG_2X1-78-RA-TH
designator J?, comment S2B-PH-K-S(LF)(SN)
2 Pins, 1 Row 2mm Pitch, Right angle Connector, male; Manufacturer: JST; Mating Part Number: PHR-2; Crimp Part Number: ASPHSPH24K51; Alternate Part Number-1: NA; Manufacturer Part Number: S2B-PH-K-S(LF)(SN); Case/Package: TH-CON; Supplier-1: ARROW; Supplier Part Number-1: S2B-PH-K-S(LF)(SN)
footprint CON2_78_S2B-PH-K-S_TH_RA (CONN HEADER R/A)
pins: 1, 2

## CON-PLG_2X1-78-ST-TH
designator J?, comment B2B-PH-K-S(LF)(SN)
2 Pins, 1 Row 2mm Pitch, Straight Connector, male; Manufacturer: JST; Mating Part Number: PHR-2; Crimp Part Number: ASPHSPH24K51; Alternate Part Number-1: NA; Manufacturer Part Number: B2B-PH-K-S(LF)(SN); Case/Package: TH-CON; Supplier-1: ARROW; Supplier Part Number-1: B2B-PH-K-S(LF)(SN)
footprint CON2_78_B2B-PH-K-S_TH_ST (CONNECTOR)
pins: 1, 2

## CON-PLG_2X1-100-RA-TH
designator J?, comment S2B-XH-A(LF)(SN)
2 Pins, 1 Row 2.54mm Pitch, right angle Connector, male; Manufacturer: JST; Mating Part Number: XHP-2; Crimp Part Number: ASXHSXH22K51; Alternate Part Number-1: NA; Manufacturer Part Number: S2B-XH-A(LF)(SN); Case/Package: TH-CON; Supplier-1: ARROW; Supplier Part Number-1: S2B-XH-A(LF)(SN)
footprint CON2_100_S2B-XH-A_TH_RA (Connector Header)
pins: 1, 2

## CON-PLG_2X1-100-ST-TH
designator J?, comment B2B-XH-A(LF)(SN)
2 Pins, 1 Row 2.54mm Pitch, Straight Connector, male; Manufacturer: JST; Mating Part Number: XHP-2; Crimp Part Number: ASXHSXH22K51; Alternate Part Number-1: NA; Manufacturer Part Number: B2B-XH-A(LF)(SN); Case/Package: TH-CON; Supplier-1: SP ROAD; Supplier Part Number-1: B2B-XH-A(LF)(SN)
footprint CON2_100_B2B-XH-A_TH_ST (Connector Header)
pins: 1, 2

## CON-PLG_2X1-165-RA-TH
designator J?, comment 2X1 4.2MM Pitch
2 Pins, 1 Row 4.2mm Pitch, right angle Connector, male; Manufacturer Part Number: 649002127222; MANUFACTURER: WE; Mating Part Number: 649002013322; Crimp Part Number: 64900513722; Alternate Part Number-1: NA; Case/Package: TH-CON; Supplier-1: WURTH; Supplier Part Number-1: 649002127222
footprint CON2_165_649002127222_TH_RA (Male Single Row Angled Header)
pins: 1, 2

## CON-PLG_2X3-100-ST-TH
designator J?, comment Polulu_854
6-pin shrouded male headers are great general-purpose connectors and are perfect for AVR ISP programming; Manufacturer: NA; Manufacturer Part Number: NA; Case/Package: TH; Supplier-1: Polulu; Supplier Part Number-1: Polulu_854; Alternate Part Number-1: NA
footprint CON6_100_59D78_TH_ST - duplicate (6 PIN IDC Straight)
pins: 1, 2, 3, 4, 5, 6

## CON-PLG_3X1-50-RA-TH
designator J?, comment 653003117322
3 Pins, 1 Row 1.25mm Pitch, right angleConnector, male; Manufacturer: Molex; Mating Part Number: 653003113322; Crimp Part Number: 653153128130; Alternate Part Number-1: NA; Manufacturer Part Number: 653003117322; Case/Package: TH-CON; Supplier-1: WURTH; Supplier Part Number-1: 653003117322
footprint CON3_50_653003117322_TH_RA (Connector Header)
pins: 1, 2, 3

## CON-PLG_3X1-50-ST-TH
designator J?, comment 1.25MM STARIGHT
3 Pins, 1 Row 1.25mm Pitch, straight Connector, male; Manufacturer Part Number: 653003114822; Manufacturer: WURTH; Mating Part Number: 653003113322; Crimp Part Number: 653153128130; Alternate Part Number-1: NA; Case/Package: TH-CON; Supplier-1: WURTH; Supplier Part Number-1: 653003114822
footprint CON3_50_653003114822_TH_ST (Connector Header)
pins: 1, 2, 3

## CON-PLG_3X1-78-RA-TH
designator J?, comment S3B-PH-K-S(LF)(SN)
3 Pins, 1 Row 2mm Pitch, right angle Connector, male; Manufacturer: JST; Mating Part Number: PHR-3; Crimp Part Number: ASPHSPH24K51; Alternate Part Number-1: NA; Manufacturer Part Number: S3B-PH-K-S(LF)(SN); Case/Package: TH-CON; Supplier-1: ARROW; Supplier Part Number-1: S3B-PH-K-S(LF)(SN)
footprint CON3_78_S3B-PH-K-S_TH_RA (Connector Header)
pins: 1, 2, 3

## CON-PLG_3X1-78-ST-TH
designator J?, comment 0894000320
3 Pins, 1 Row 2mm Pitch, straight Connector, male; Manufacturer: JST; Alternate Part Number-1: NA; Manufacturer Part Number: 0894000320; Case/Package: TH-CON; Supplier-1: MOUSER; Supplier Part Number-1: 894000320
footprint CON3_78_B3B-PH-K-S_TH_ST (2mm 3 way JST Connector)
pins: 1, 2, 3

## CON-PLG_3X1-100-RA-TH
designator J?, comment S3B-XH-A(LF)(SN)
3 Pins, 1 Row 2.54mm Pitch, right angle Connector, male; Manufacturer: JST; Mating Part Number: XHP-3; Crimp Part Number: ASXHSXH22K51; Alternate Part Number-1: NA; Manufacturer Part Number: S3B-XH-A(LF)(SN); Case/Package: TH-CON; Supplier-1: ARROW; Supplier Part Number-1: S3B-XH-A(LF)(SN)
footprint CON3_100_S3B-XH-A_TH_RA (Connector Header)
pins: 1 (in), 2 (in), 3 (in)

## CON-PLG_3X1-100-ST-TH
designator J?, comment B3B-XH-A(LF)(SN)
3 Pins, 1 Row 2.54mm Pitch, straight Connector, male; Manufacturer: CUI; Mating Part Number: XHP-3; Crimp Part Number: ASXHSXH22K51; Alternate Part Number-1: NA; Manufacturer Part Number: B3B-XH-A(LF)(SN); Case/Package: TH-CON; Supplier-1: ARROW; Supplier Part Number-1: B3B-XH-A(LF)(SN)
footprint CON3_100_B3B-XH-A_TH_ST (Connector Header)
pins: 1 (in), 2 (in), 3 (in)

## CON-PLG_3X1-165-RA-TH
designator J?, comment 649003127222
3 Pins, 1 Row 4.2mm Pitch, right angle Connector, male; manufacturer: WE; Mating Part Number: 649003013322; Crimp Part Number: 64900513722; Alternate Part Number-1: NA; Manufacturer Part Number: 649003127222; Case/Package: TH-CON; Supplier-1: WURTH; Supplier Part Number-1: 649003127222
footprint CON3_165_649003127222_TH_RA (Connector Header)
pins: 1, 2, 3

## CON-PLG_3X1-228-DC_JACK
designator J?, comment DC -JACK
3 Pins, 1 Row 228mil Pitch, right angle Connector, male; Manufacturer: JST; Manufacturer Part Number: PJ-002A; Alternate Part Number-1: NA; Case/Package: TH-CON; Supplier-1: SP ROAD; Supplier Part Number-1: NA
footprint CON3_129_PJ-002A_TH_RA (DC JACK)
pins: 1, 2, 3 -
text: +; DC JACK

## CON-PLG_3X1-ECT818000071-ST-SMD
designator J?, comment ECT818000071
SMD RF Connectors/Coaxial Connectors RoHS; Manufacturer: ECT; Alternate Part Number-1: NA; Manufacturer Part Number: ECT818000071; Case/Package: SMD; Supplier-1: LCSC; Supplier Part Number-1: C437252
footprint CON3_UFL_116_SMD_ST (UFL Connector)
pins: 1 GND, 2 SIG, 3 GND

## CON-PLG_4X1-50-RA-SMD
designator J?, comment 653104131822
4 Pins, 1 Row 1.25mm Pitch, right angle Connector, male; Manufacturer: WE; Mating Part Number: 653004113322; Crimp Part Number: 65300113722DEC; Alternate Part Number-1: NA; Manufacturer Part Number: 653104131822; Case/Package: TH-CON; Supplier-1: WURTH; Supplier Part Number-1: 653104131822
footprint CON4_653104131822_SMD (CONNECTOR)
pins: 1, 2, 3, 4

## CON-PLG_4X1-50-RA-TH
designator J?, comment 1.25MM Spade 4PIN
4 Pins, 1 Row 1.25mm Pitch, right angle Connector, male; Manufacturer Part Number: 653004117322; Manufacturer: JST; Mating Part Number: 653004113322; Crimp Part Number: 653153128130; Alternate Part Number-1: NA; Case/Package: TH-CON; Supplier-1: WURTH; Supplier Part Number-1: 653004117322
footprint CON4_50_653004117322_TH_RA (wurth connector)
pins: 1, 2, 3, 4

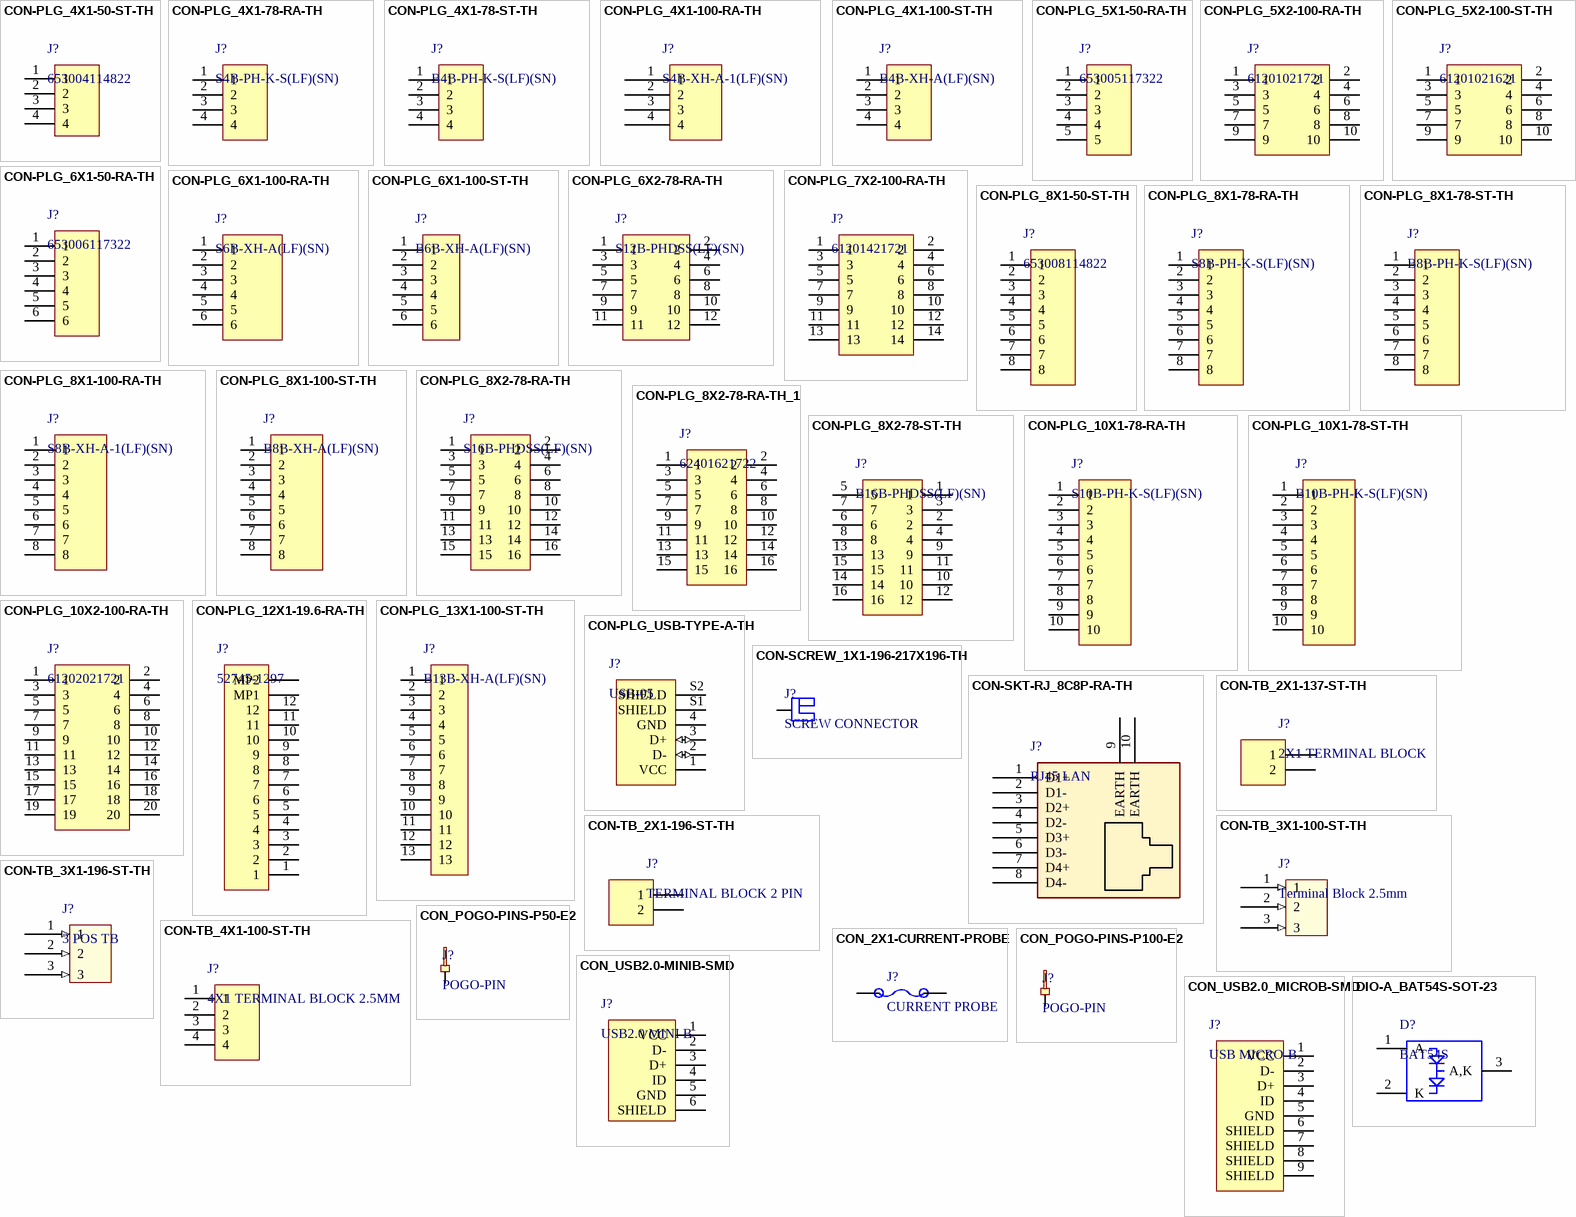
[diagram p3: symbols CON-PLG_4X1-50-ST-TH to DIO-A_BAT54S-SOT-23]

## CON-PLG_4X1-50-ST-TH
designator J?, comment 653004114822
4 Pins, 1 Row 1.25mm Pitch, straight Connector, male; Manufacturer: JST; Mating Part Number: 653004113322; Crimp Part Number: 653153128130; Alternate Part Number-1: NA; Manufacturer Part Number: 653004114822; Case/Package: TH-CON; Supplier-1: WURTH; Supplier Part Number-1: 653004114822
footprint CON4_50_653004114822_TH_ST (Connector Header)
pins: 1, 2, 3, 4

## CON-PLG_4X1-78-RA-TH
designator J?, comment S4B-PH-K-S(LF)(SN)
4 Pins, 1 Row 2mm Pitch, right angle Connector, male; Manufacturer: Wurth Electronics; Mating Part Number: PHR-4; Crimp Part Number: ASPHSPH24K51; Alternate Part Number-1: NA; Manufacturer Part Number: S4B-PH-K-S(LF)(SN); Case/Package: TH-CON; Supplier-1: ARROW; Supplier Part Number-1: S4B-PH-K-S(LF)(SN)
footprint CON4_78_S4B-PH-K-S_TH_RA (Connector Header)
pins: 1, 2, 3, 4

## CON-PLG_4X1-78-ST-TH
designator J?, comment B4B-PH-K-S(LF)(SN)
Connector Header Through Hole 4 position 0.079" (2.00mm); Manufacturer: JST; Mating Part Number: PHR-4; Crimp Part Number: ASPHSPH24K51; Alternate Part Number-1: NA; Manufacturer Part Number: B4B-PH-K-S(LF)(SN); Case/Package: TH; Supplier-1: SP Road; Supplier Part Number-1: NA
footprint CON4_78_B4B-PH-K-S(LF)(SN) (JST TH)
pins: 1, 2, 3, 4

## CON-PLG_4X1-100-RA-TH
designator J?, comment S4B-XH-A-1(LF)(SN)
4 Pins, 1 Row 2.54mm Pitch, right angle Connector, male; Manufacturer: Wurth Electronics; Mating Part Number: XHP-4; Crimp Part Number: ASXHSXH22K51; Alternate Part Number-1: NA; Manufacturer Part Number: S4B-XH-A-1(LF)(SN); Case/Package: TH-CON; Supplier-1: LCSC; Supplier Part Number-1: S4B-XH-A
footprint CON4_100_S4B-XH-A_TH_RA (Connector Header)
pins: 1, 2, 3, 4

## CON-PLG_4X1-100-ST-TH
designator J?, comment B4B-XH-A(LF)(SN)
4 Pins, 1 Row 2.54mm Pitch, straight Connector, male; Manufacturer: Wurth Electronics; Mating Part Number: XHP-4; Crimp Part Number: ASXHSXH22K51; Alternate Part Number-1: NA; Manufacturer Part Number: B4B-XH-A(LF)(SN); Case/Package: TH-CON; Supplier-1: LCSC; Supplier Part Number-1: B4B-XH-A(LF)(SN)
footprint CON4_100_B4B-XH-A_TH_ST (Connector Header)
pins: 1, 2, 3, 4

## CON-PLG_5X1-50-RA-TH
designator J?, comment 653005117322
5 Pins, 1 Row 1.25mm Pitch, right angle Connector, male; Manufacturer: JST; Mating Part Number: 653005113322; Crimp Part Number: 653153128130; Alternate Part Number-1: NA; Manufacturer Part Number: 653005117322; Case/Package: TH-CON; Supplier-1: WURTH; Supplier Part Number-1: 653005117322
footprint CON5_50_653005117322_TH_RA (Connector Header)
pins: 1, 2, 3, 4, 5

## CON-PLG_5X2-100-RA-TH
designator J?, comment 61201021721
10 Pins, 2 Row 2.54mm Pitch, right angle Connector, male; Manufacturer: wurth electronics; Mating Part Number: 61201023021; Crimp Part Number: 63911015521CAB; Alternate Part Number-1: NA; Manufacturer Part Number: 61201021721; Case/Package: TH-CON; Supplier-1: WURTH; Supplier Part Number-1: 61201021721
footprint CON10_100_61201021721_TH_RA
pins: 1, 2, 3, 4, 5, 6, 7, 8, 9, 10

## CON-PLG_5X2-100-ST-TH
designator J?, comment 61201021621
10 Pins, 2 Row 2.54mm Pitch, straight Connector, male; Manufacturer: Wurth Electronics; Mating Part Number: 61201023021; Crimp Part Number: 63911015521CAB; Alternate Part Number-1: NA; Manufacturer Part Number: 61201021621; Case/Package: TH-CON; Supplier-1: WURTH; Supplier Part Number-1: 61201021621
footprint CON10_100_61201021621_TH_ST
pins: 1, 2, 3, 4, 5, 6, 7, 8, 9, 10

## CON-PLG_6X1-50-RA-TH
designator J?, comment 653006117322
6 Pins, 1 Row 1.25mm Pitch, right angle Connector, male; Manufacturer: Wurth Electronics; Mating Part Number: 653006113322; Crimp Part Number: 653153128130; Alternate Part Number-1: NA; Manufacturer Part Number: 653006117322; Case/Package: TH-CON; Supplier-1: WURTH; Supplier Part Number-1: 653006117322
footprint CON6_50_653006117322_TH_RA (wurth connector)
pins: 1, 2, 3, 4, 5, 6

## CON-PLG_6X1-100-RA-TH
designator J?, comment S6B-XH-A(LF)(SN)
6 Pins, 1 Row 2.54mm Pitch, right angle Connector, male; Manufacturer: JST; Mating Part Number: XHP-6; Crimp Part Number: ASXHSXH22K51; Alternate Part Number-1: NA; Manufacturer Part Number: S6B-XH-A(LF)(SN); Case/Package: TH-CON; Supplier-1: ARROW; Supplier Part Number-1: S6B-XH-A(LF)(SN)
footprint CON6_100_S6B-XH-A_TH_RA (Connector Header)
pins: 1, 2, 3, 4, 5, 6

## CON-PLG_6X1-100-ST-TH
designator J?, comment B6B-XH-A(LF)(SN)
6 Pins, 1 Row 2.54mm Pitch, straight Connector, male; Manufacturer: JST; Mating Part Number: XHP-6; Crimp Part Number: ASXHSXH22K51; Alternate Part Number-1: NA; Manufacturer Part Number: B6B-XH-A(LF)(SN); Case/Package: TH-CON; Supplier-1: ARROW; Supplier Part Number-1: B6B-XH-A(LF)(SN)
footprint CON6_100_B6B-XH-A_TH_ST (Connector Header)
pins: 1, 2, 3, 4, 5, 6

## CON-PLG_6X2-78-RA-TH
designator J?, comment S12B-PHDSS(LF)(SN)
12 Pins, 2 Row 2mm Pitch, right angle Connector, male; Manufacturer: JST; Mating Part Number: PHDR-12VS; Crimp Part Number: SPHD-001T-P0.5; Alternate Part Number-1: NA; Manufacturer Part Number: S12B-PHDSS(LF)(SN); Case/Package: TH-CON; Supplier-1: ARROW; Supplier Part Number-1: S12B-PHDSS(LF)(SN)
footprint CON12_78_S12B-PHDSS_TH_RA (CONNECTOR)
pins: 1, 2, 3, 4, 5, 6, 7, 8, 9, 10, 11, 12

## CON-PLG_7X2-100-RA-TH
designator J?, comment 61201421721
14 Pins, 2 Row 1.25mm Pitch, right angle Connector, male; Manufacturer: WE; Mating Part Number: 61201423021; Crimp Part Number: 63911415521CAB; Alternate Part Number-1: NA; Manufacturer Part Number: 61201421721; Case/Package: TH-CON; Supplier-1: WURTH; Supplier Part Number-1: 61201421721
footprint CON14_100_61201421721_TH_RA (Connector Header Through Hole, Right Angle 14 position 0.100" (2.54mm))
pins: 1, 2, 3, 4, 5, 6, 7, 8, 9, 10, 11, 12, 13, 14